# Altium integrated library TI Power Management LDO Controller.IntLib: 89 symbols (part 1 of 3)
Pins are listed as number, name and electrical type; pins without a type are passive.

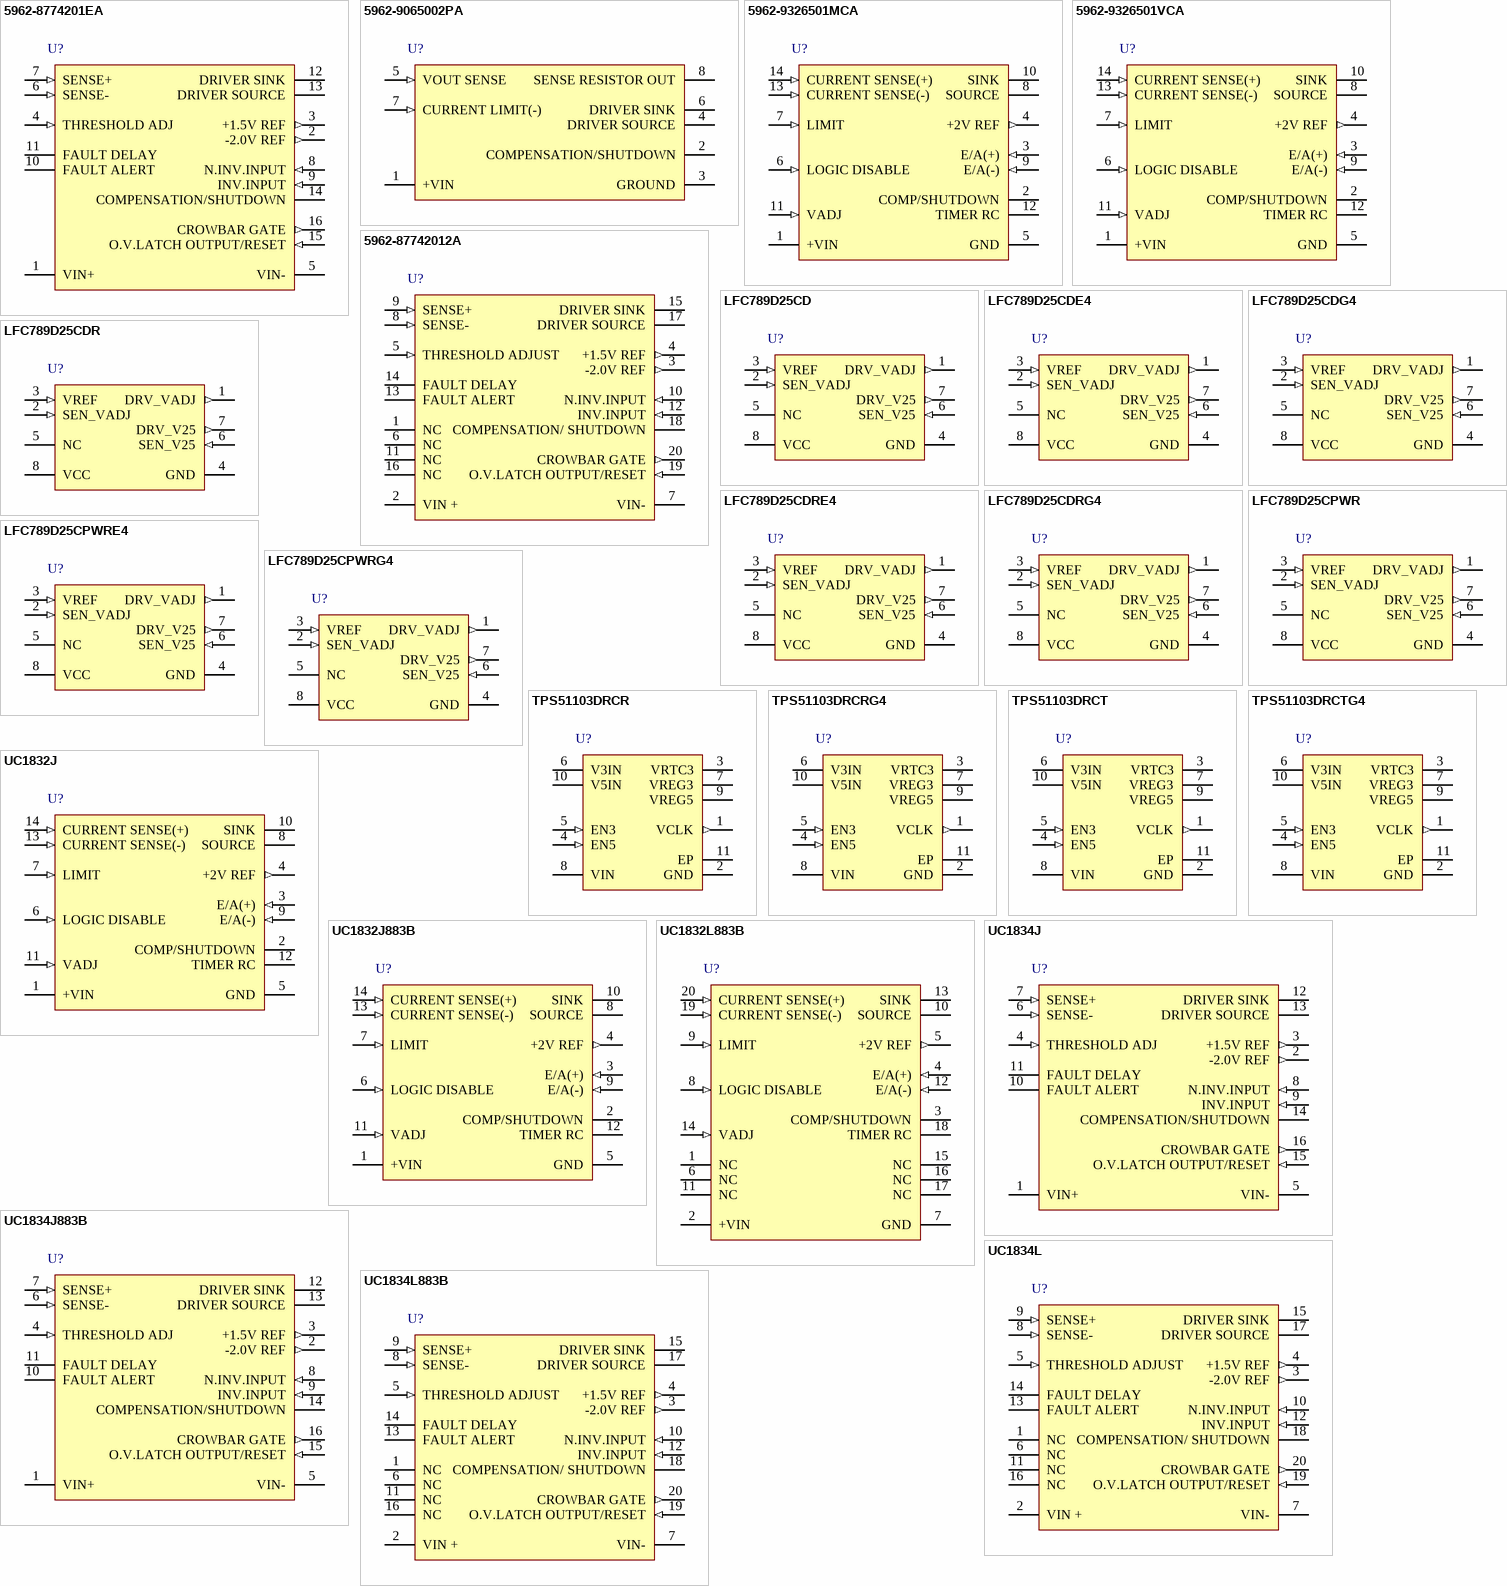
[diagram p0: symbols 5962-8774201EA to UC1834L883B]

## 5962-8774201EA
designator U?
High Efficiency Linear Regulator, 4 % Tolerance, 5 to 35 V, -55 to 125 degC, 16-pin CDIP (J); PartNumber: 5962-8774201EA; Manufacturer: Texas Instruments; Fixed Output Options(V): 1.5; Iq(Typ)(mA): 5.5; SubFamily: LDO Controller; Tolerance(%): 4; Vin(Max)(V): 35; Vin(Min)(V): 5; DatasheetVersion: SLUS363; PackageVersion: revF, Mar-2003; PackageReference: J16; PackageDescription: 16-Pin, Ceramic Dual In-Line Package, Row Spacing 7.62 mm, Pitch 2.54 mm; Mounting Technology: Through Hole; ComponentLink1Description: Datasheet; ComponentLink1URL: http://www.ti.com/general/docs/lit/getliterature.tsp?genericPartNumber=UC1834&fileType=pdf
footprint J16 (DIP, 16-Leads, Row Spacing 7.62mm, Pitch 2.54mm, Body 21.3x6.9mm)
pins: 1 VIN+ (power), 2 -2.0V REF (out), 3 +1.5V REF (out), 4 THRESHOLD ADJ (in), 5 VIN- (power), 6 SENSE- (in), 7 SENSE+ (in), 8 N.INV.INPUT (in), 9 INV.INPUT (in), 10 FAULT ALERT (oc), 11 FAULT DELAY, 12 DRIVER SINK, 13 DRIVER SOURCE, 14 COMPENSATION/SHUTDOWN, 15 O.V.LATCH OUTPUT/RESET (in), 16 CROWBAR GATE (out)

## 5962-9065002PA
designator U?
High Efficiency Regulator Controller, 2 % Tolerance, 6 to 40 V, -55 to +125 degC, 8-pin CDIP (JG); PartNumber: 5962-9065002PA; Manufacturer: Texas Instruments; Iq(Typ)(mA): 3.7; SubFamily: LDO Controller; Tolerance(%): 2; Vin(Max)(V): 40; Vin(Min)(V): 6; Vout Adj(Max)(V): 5; Vout Adj(Min)(V): 2.5; DatasheetVersion: SLUS383; PackageVersion: revC, Aug-1996; PackageReference: JG8; PackageDescription: 8-Pin Ceramic Dual-In-Line Package, Row Spacing 7.62 mm, Pitch 2.54 mm; Mounting Technology: Through Hole; ComponentLink1Description: Datasheet; ComponentLink1URL: http://www.ti.com/general/docs/lit/getliterature.tsp?genericPartNumber=UC1836&fileType=pdf
footprint JG8 (DIP, 8-Leads, Row Spacing 7.62mm, Pitch 2.54mm, Body 9.6x6.7mm)
pins: 1 +VIN (power), 2 COMPENSATION/SHUTDOWN, 3 GROUND (power), 4 DRIVER SOURCE, 5 VOUT SENSE (in), 6 DRIVER SINK, 7 CURRENT LIMIT(-) (in), 8 SENSE RESISTOR OUT

## 5962-9326501MCA
designator U?
Precision Low Dropout Linear Controller, 2 % Tolerance, 4.5 to 40 V, -55 to 125 degC, 14-pin CDIP (J); PartNumber: 5962-9326501MCA; Manufacturer: Texas Instruments; Fixed Output Options(V): 2; Iq(Typ)(mA): 3.3; SubFamily: LDO Controller; Vin(Max)(V): 40; Vin(Min)(V): 4.5; DatasheetVersion: SLUS387A; PackageVersion: revF, Mar-2003; PackageReference: J14; PackageDescription: 14-Pin Ceramic Dual-In-Line Package, Row Spacing 7.62 mm, Pitch 2.54 mm; Tolerance(%): 2; Mounting Technology: Through Hole; ComponentLink1Description: Datasheet; ComponentLink1URL: http://www.ti.com/general/docs/lit/getliterature.tsp?genericPartNumber=UC1832&fileType=pdf
footprint J14 (DIP, 14-Leads, Row Spacing 7.62mm, Pitch 2.54mm, Body 19.9x6.9mm)
pins: 1 +VIN (power), 2 COMP/SHUTDOWN, 3 E/A(+) (in), 4 +2V REF (out), 5 GND (power), 6 LOGIC DISABLE (in), 7 LIMIT (in), 8 SOURCE, 9 E/A(-) (in), 10 SINK, 11 VADJ (in), 12 TIMER RC, 13 CURRENT SENSE(-) (in), 14 CURRENT SENSE(+) (in)

## 5962-9326501VCA
designator U?
Precision Low Dropout Linear Controller, 2 % Tolerance, 4.5 to 40 V, 14-pin CDIP (J); PartNumber: 5962-9326501VCA; Manufacturer: Texas Instruments; Fixed Output Options(V): 2; Iq(Typ)(mA): 3.3; SubFamily: LDO Controller; Vin(Max)(V): 40; Vin(Min)(V): 4.5; DatasheetVersion: SLUS387A; PackageVersion: revF, Mar-2003; PackageReference: J14; PackageDescription: 14-Pin Ceramic Dual-In-Line Package, Row Spacing 7.62 mm, Pitch 2.54 mm; Tolerance(%): 2; Mounting Technology: Through Hole; ComponentLink1Description: Datasheet; ComponentLink1URL: http://www.ti.com/general/docs/lit/getliterature.tsp?genericPartNumber=UC1832-SP&fileType=pdf
footprint J14 (DIP, 14-Leads, Row Spacing 7.62mm, Pitch 2.54mm, Body 19.9x6.9mm)
pins: 1 +VIN (power), 2 COMP/SHUTDOWN, 3 E/A(+) (in), 4 +2V REF (out), 5 GND (power), 6 LOGIC DISABLE (in), 7 LIMIT (in), 8 SOURCE, 9 E/A(-) (in), 10 SINK, 11 VADJ (in), 12 TIMER RC, 13 CURRENT SENSE(-) (in), 14 CURRENT SENSE(+) (in)

## 5962-87742012A
designator U?
High Efficiency Linear Regulator, 4 % Tolerance, 5 to 35 V, -55 to 125 degC, 20-pin LCCC (FK); PartNumber: 5962-87742012A; Manufacturer: Texas Instruments; Fixed Output Options(V): 1.5; Iq(Typ)(mA): 5.5; SubFamily: LDO Controller; Tolerance(%): 4; Vin(Max)(V): 35; Vin(Min)(V): 5; DatasheetVersion: SLUS363; PackageVersion: revD, Jan-2011; PackageReference: FK20; PackageDescription: 20-Pin Leadless Ceramic Chip Carrier, 1.27 mm Pitch; Mounting Technology: Surface Mount; Code_JEDEC: MS-004; ComponentLink1Description: Datasheet; ComponentLink1URL: http://www.ti.com/general/docs/lit/getliterature.tsp?genericPartNumber=UC1834&fileType=pdf
footprint FK20_N (Leadless Chip Carrier, 20-Leads, Body 8.9x8.9mm, Pitch 1.27mm, IPC Medium Density)
footprint FK20_L (Leadless Chip Carrier, 20-Leads, Body 8.9x8.9mm, Pitch 1.27mm, IPC High Density)
footprint FK20_M (Leadless Chip Carrier, 20-Leads, Body 8.9x8.9mm, Pitch 1.27mm, IPC Low Density)
pins: 1 NC, 2 VIN + (power), 3 -2.0V REF (out), 4 +1.5V REF (out), 5 THRESHOLD ADJUST (in), 6 NC, 7 VIN- (power), 8 SENSE- (in), 9 SENSE+ (in), 10 N.INV.INPUT (in), 11 NC, 12 INV.INPUT (in), 13 FAULT ALERT (oc), 14 FAULT DELAY, 15 DRIVER SINK, 16 NC, 17 DRIVER SOURCE, 18 COMPENSATION/ SHUTDOWN, 19 O.V.LATCH OUTPUT/RESET (in), 20 CROWBAR GATE (out)

## LFC789D25CD
designator U?
Dual Linear FET Controller, 2 % Tolerance, 9 to 16 V, 0 to 70 degC, 8-pin SOIC (D), Green (RoHS & no Sb/Br); PartNumber: LFC789D25CD; Manufacturer: Texas Instruments; Fixed Output Options(V): 2.5; Iq(Typ)(mA): 2; SubFamily: LDO Controller; Vin(Max)(V): 16; Vin(Min)(V): 9; DatasheetVersion: SLLS565B; PackageVersion: revM, Jun-2011; PackageReference: D8; PackageDescription: 8-Pin Plastic Small Outline Integrated Circuit, 4.9 x 3.9 mm, Pitch 1.27 mm Pitch; Supplier 1: Digi-Key; Supplier Part Number 1: LFC789D25CD-ND; Supplier 2: Newark; Supplier Part Number 2: 21J8791; Supplier 3: Mouser; Supplier Part Number 3: 595-LFC789D25CD; Tolerance(%): 2; Mounting Technology: Surface Mount; Code_JEDEC: MS-012AA; ComponentLink1Description: Datasheet; ComponentLink1URL: http://www.ti.com/general/docs/lit/getliterature.tsp?genericPartNumber=LFC789D25&fileType=pdf
footprint D8_N (SOIC, 8-Leads, Body 4.9x3.9mm, Pitch 1.27mm, IPC Medium Density)
footprint D8_L (SOIC, 8-Leads, Body 4.9x3.9mm, Pitch 1.27mm, IPC High Density)
footprint D8_M (SOIC, 8-Leads, Body 4.9x3.9mm, Pitch 1.27mm, IPC Low Density)
pins: 1 DRV_VADJ (out) "Output of adjustable controller. Drives gate(s) of FET(s) to output user-programmable voltage (VADJ).", 2 SEN_VADJ (in) "Sense input of adjustable controller. Senses changes in VADJ.", 3 VREF (in) "Input pin used to program VADJ, allowing VADJ to track changes in VREF", 4 GND (power) "Ground", 5 NC "No connection", 6 SEN_V25 (in) "Sense Input of 2.5-V controller. Senses changes in 2.5-V supply.", 7 DRV_V25 (out) "Output of 2.5-V controller. Drives gate(s) of FET(s) to output fixed 2.5 V.", 8 VCC (power) "Power supply for device"

## LFC789D25CDE4
designator U?
Dual Linear FET Controller, 2 % Tolerance, 9 to 16 V, 0 to 70 degC, 8-pin SOIC (D), Green (RoHS & no Sb/Br); PartNumber: LFC789D25CDE4; Manufacturer: Texas Instruments; Fixed Output Options(V): 2.5; Iq(Typ)(mA): 2; SubFamily: LDO Controller; Vin(Max)(V): 16; Vin(Min)(V): 9; DatasheetVersion: SLLS565B; PackageVersion: revM, Jun-2011; PackageReference: D8; PackageDescription: 8-Pin Plastic Small Outline Integrated Circuit, 4.9 x 3.9 mm, Pitch 1.27 mm Pitch; Supplier 1: Digi-Key; Supplier Part Number 1: LFC789D25CDE4-ND; Supplier 2: Newark; Supplier Part Number 2: 37K0157; Supplier 3: Mouser; Supplier Part Number 3: 595-LFC789D25CDE4; Tolerance(%): 2; Mounting Technology: Surface Mount; Code_JEDEC: MS-012AA; ComponentLink1Description: Datasheet; ComponentLink1URL: http://www.ti.com/general/docs/lit/getliterature.tsp?genericPartNumber=LFC789D25&fileType=pdf
footprint D8_N (SOIC, 8-Leads, Body 4.9x3.9mm, Pitch 1.27mm, IPC Medium Density)
footprint D8_L (SOIC, 8-Leads, Body 4.9x3.9mm, Pitch 1.27mm, IPC High Density)
footprint D8_M (SOIC, 8-Leads, Body 4.9x3.9mm, Pitch 1.27mm, IPC Low Density)
pins: 1 DRV_VADJ (out) "Output of adjustable controller. Drives gate(s) of FET(s) to output user-programmable voltage (VADJ).", 2 SEN_VADJ (in) "Sense input of adjustable controller. Senses changes in VADJ.", 3 VREF (in) "Input pin used to program VADJ, allowing VADJ to track changes in VREF", 4 GND (power) "Ground", 5 NC "No connection", 6 SEN_V25 (in) "Sense Input of 2.5-V controller. Senses changes in 2.5-V supply.", 7 DRV_V25 (out) "Output of 2.5-V controller. Drives gate(s) of FET(s) to output fixed 2.5 V.", 8 VCC (power) "Power supply for device"

## LFC789D25CDG4
designator U?
Dual Linear FET Controller, 2 % Tolerance, 9 to 16 V, 0 to 70 degC, 8-pin SOIC (D), Green (RoHS & no Sb/Br); PartNumber: LFC789D25CDG4; Manufacturer: Texas Instruments; Fixed Output Options(V): 2.5; Iq(Typ)(mA): 2; SubFamily: LDO Controller; Vin(Max)(V): 16; Vin(Min)(V): 9; DatasheetVersion: SLLS565B; PackageVersion: revM, Jun-2011; PackageReference: D8; PackageDescription: 8-Pin Plastic Small Outline Integrated Circuit, 4.9 x 3.9 mm, Pitch 1.27 mm Pitch; Supplier 1: Digi-Key; Supplier Part Number 1: LFC789D25CDG4-ND; Supplier 2: Newark; Supplier Part Number 2: 41M3337; Supplier 3: Mouser; Supplier Part Number 3: 595-LFC789D25CDG4; Tolerance(%): 2; Mounting Technology: Surface Mount; Code_JEDEC: MS-012AA; ComponentLink1Description: Datasheet; ComponentLink1URL: http://www.ti.com/general/docs/lit/getliterature.tsp?genericPartNumber=LFC789D25&fileType=pdf
footprint D8_N (SOIC, 8-Leads, Body 4.9x3.9mm, Pitch 1.27mm, IPC Medium Density)
footprint D8_L (SOIC, 8-Leads, Body 4.9x3.9mm, Pitch 1.27mm, IPC High Density)
footprint D8_M (SOIC, 8-Leads, Body 4.9x3.9mm, Pitch 1.27mm, IPC Low Density)
pins: 1 DRV_VADJ (out) "Output of adjustable controller. Drives gate(s) of FET(s) to output user-programmable voltage (VADJ).", 2 SEN_VADJ (in) "Sense input of adjustable controller. Senses changes in VADJ.", 3 VREF (in) "Input pin used to program VADJ, allowing VADJ to track changes in VREF", 4 GND (power) "Ground", 5 NC "No connection", 6 SEN_V25 (in) "Sense Input of 2.5-V controller. Senses changes in 2.5-V supply.", 7 DRV_V25 (out) "Output of 2.5-V controller. Drives gate(s) of FET(s) to output fixed 2.5 V.", 8 VCC (power) "Power supply for device"

## LFC789D25CDR
designator U?
Dual Linear FET Controller, 2 % Tolerance, 9 to 16 V, 0 to 70 degC, 8-pin SOIC (D), Green (RoHS & no Sb/Br); PartNumber: LFC789D25CDR; Manufacturer: Texas Instruments; Fixed Output Options(V): 2.5; Iq(Typ)(mA): 2; SubFamily: LDO Controller; Vin(Max)(V): 16; Vin(Min)(V): 9; DatasheetVersion: SLLS565B; PackageVersion: revM, Jun-2011; PackageReference: D8; PackageDescription: 8-Pin Plastic Small Outline Integrated Circuit, 4.9 x 3.9 mm, Pitch 1.27 mm Pitch; Supplier 1: Digi-Key; Supplier Part Number 1: 296-17214-2-ND; Supplier 2: Digi-Key; Supplier Part Number 2: 296-17214-1-ND; Supplier 3: Digi-Key; Supplier Part Number 3: 296-17214-6-ND; Supplier 4: Newark; Supplier Part Number 4: 21J8792; Supplier 5: Mouser; Supplier Part Number 5: 595-LFC789D25CDR; Tolerance(%): 2; Mounting Technology: Surface Mount; Code_JEDEC: MS-012AA; ComponentLink1Description: Datasheet; ComponentLink1URL: http://www.ti.com/general/docs/lit/getliterature.tsp?genericPartNumber=LFC789D25&fileType=pdf
footprint D8_N (SOIC, 8-Leads, Body 4.9x3.9mm, Pitch 1.27mm, IPC Medium Density)
footprint D8_L (SOIC, 8-Leads, Body 4.9x3.9mm, Pitch 1.27mm, IPC High Density)
footprint D8_M (SOIC, 8-Leads, Body 4.9x3.9mm, Pitch 1.27mm, IPC Low Density)
pins: 1 DRV_VADJ (out) "Output of adjustable controller. Drives gate(s) of FET(s) to output user-programmable voltage (VADJ).", 2 SEN_VADJ (in) "Sense input of adjustable controller. Senses changes in VADJ.", 3 VREF (in) "Input pin used to program VADJ, allowing VADJ to track changes in VREF", 4 GND (power) "Ground", 5 NC "No connection", 6 SEN_V25 (in) "Sense Input of 2.5-V controller. Senses changes in 2.5-V supply.", 7 DRV_V25 (out) "Output of 2.5-V controller. Drives gate(s) of FET(s) to output fixed 2.5 V.", 8 VCC (power) "Power supply for device"

## LFC789D25CDRE4
designator U?
Dual Linear FET Controller, 2 % Tolerance, 9 to 16 V, 0 to 70 degC, 8-pin SOIC (D), Green (RoHS & no Sb/Br); PartNumber: LFC789D25CDRE4; Manufacturer: Texas Instruments; Fixed Output Options(V): 2.5; Iq(Typ)(mA): 2; SubFamily: LDO Controller; Vin(Max)(V): 16; Vin(Min)(V): 9; DatasheetVersion: SLLS565B; PackageVersion: revM, Jun-2011; PackageReference: D8; PackageDescription: 8-Pin Plastic Small Outline Integrated Circuit, 4.9 x 3.9 mm, Pitch 1.27 mm Pitch; Supplier 1: Digi-Key; Supplier Part Number 1: LFC789D25CDRE4-ND; Supplier 2: Newark; Supplier Part Number 2: 37K0158; Supplier 3: Mouser; Supplier Part Number 3: 595-LFC789D25CDRE4; Tolerance(%): 2; Mounting Technology: Surface Mount; Code_JEDEC: MS-012AA; ComponentLink1Description: Datasheet; ComponentLink1URL: http://www.ti.com/general/docs/lit/getliterature.tsp?genericPartNumber=LFC789D25&fileType=pdf
footprint D8_N (SOIC, 8-Leads, Body 4.9x3.9mm, Pitch 1.27mm, IPC Medium Density)
footprint D8_L (SOIC, 8-Leads, Body 4.9x3.9mm, Pitch 1.27mm, IPC High Density)
footprint D8_M (SOIC, 8-Leads, Body 4.9x3.9mm, Pitch 1.27mm, IPC Low Density)
pins: 1 DRV_VADJ (out) "Output of adjustable controller. Drives gate(s) of FET(s) to output user-programmable voltage (VADJ).", 2 SEN_VADJ (in) "Sense input of adjustable controller. Senses changes in VADJ.", 3 VREF (in) "Input pin used to program VADJ, allowing VADJ to track changes in VREF", 4 GND (power) "Ground", 5 NC "No connection", 6 SEN_V25 (in) "Sense Input of 2.5-V controller. Senses changes in 2.5-V supply.", 7 DRV_V25 (out) "Output of 2.5-V controller. Drives gate(s) of FET(s) to output fixed 2.5 V.", 8 VCC (power) "Power supply for device"

## LFC789D25CDRG4
designator U?
Dual Linear FET Controller, 2 % Tolerance, 9 to 16 V, 0 to 70 degC, 8-pin SOIC (D), Green (RoHS & no Sb/Br); PartNumber: LFC789D25CDRG4; Manufacturer: Texas Instruments; Fixed Output Options(V): 2.5; Iq(Typ)(mA): 2; SubFamily: LDO Controller; Vin(Max)(V): 16; Vin(Min)(V): 9; DatasheetVersion: SLLS565B; PackageVersion: revM, Jun-2011; PackageReference: D8; PackageDescription: 8-Pin Plastic Small Outline Integrated Circuit, 4.9 x 3.9 mm, Pitch 1.27 mm Pitch; Supplier 1: Digi-Key; Supplier Part Number 1: LFC789D25CDRG4-ND; Supplier 2: Newark; Supplier Part Number 2: 41M3338; Supplier 3: Mouser; Supplier Part Number 3: 595-LFC789D25CDRG4; Tolerance(%): 2; Mounting Technology: Surface Mount; Code_JEDEC: MS-012AA; ComponentLink1Description: Datasheet; ComponentLink1URL: http://www.ti.com/general/docs/lit/getliterature.tsp?genericPartNumber=LFC789D25&fileType=pdf
footprint D8_N (SOIC, 8-Leads, Body 4.9x3.9mm, Pitch 1.27mm, IPC Medium Density)
footprint D8_L (SOIC, 8-Leads, Body 4.9x3.9mm, Pitch 1.27mm, IPC High Density)
footprint D8_M (SOIC, 8-Leads, Body 4.9x3.9mm, Pitch 1.27mm, IPC Low Density)
pins: 1 DRV_VADJ (out) "Output of adjustable controller. Drives gate(s) of FET(s) to output user-programmable voltage (VADJ).", 2 SEN_VADJ (in) "Sense input of adjustable controller. Senses changes in VADJ.", 3 VREF (in) "Input pin used to program VADJ, allowing VADJ to track changes in VREF", 4 GND (power) "Ground", 5 NC "No connection", 6 SEN_V25 (in) "Sense Input of 2.5-V controller. Senses changes in 2.5-V supply.", 7 DRV_V25 (out) "Output of 2.5-V controller. Drives gate(s) of FET(s) to output fixed 2.5 V.", 8 VCC (power) "Power supply for device"

## LFC789D25CPWR
designator U?
Dual Linear FET Controller, 2 % Tolerance, 9 to 16 V, 0 to 70 degC, 8-pin TSSOP (PW), Green (RoHS & no Sb/Br); PartNumber: LFC789D25CPWR; Manufacturer: Texas Instruments; Fixed Output Options(V): 2.5; Iq(Typ)(mA): 2; SubFamily: LDO Controller; Vin(Max)(V): 16; Vin(Min)(V): 9; DatasheetVersion: SLLS565B; PackageVersion: revG, Feb-2011; PackageReference: PW8; PackageDescription: 8-Pin Plastic Thin Small Outline Package 3 x 4.4 mm Body ,0.65 mm Pitch; Supplier 1: Digi-Key; Supplier Part Number 1: 296-17215-2-ND; Supplier 2: Digi-Key; Supplier Part Number 2: 296-17215-1-ND; Supplier 3: Digi-Key; Supplier Part Number 3: 296-17215-6-ND; Supplier 4: Newark; Supplier Part Number 4: 21J8794; Supplier 5: Mouser; Supplier Part Number 5: 595-LFC789D25CPWR; Tolerance(%): 2; Mounting Technology: Surface Mount; Code_JEDEC: MO-153; ComponentLink1Description: Datasheet; ComponentLink1URL: http://www.ti.com/general/docs/lit/getliterature.tsp?genericPartNumber=LFC789D25&fileType=pdf
footprint PW8_N (TSOP, 8-Leads, Body 3x4.4mm, Pitch 0.65mm, IPC Medium Density)
footprint PW8_L (TSOP, 8-Leads, Body 3x4.4mm, Pitch 0.65mm, IPC High Density)
footprint PW8_M (TSOP, 8-Leads, Body 3x4.4mm, Pitch 0.65mm, IPC Low Density)
pins: 1 DRV_VADJ (out) "Output of adjustable controller. Drives gate(s) of FET(s) to output user-programmable voltage (VADJ).", 2 SEN_VADJ (in) "Sense input of adjustable controller. Senses changes in VADJ.", 3 VREF (in) "Input pin used to program VADJ, allowing VADJ to track changes in VREF.", 4 GND (power) "Ground.", 5 NC "No connection.", 6 SEN_V25 (in) "Sense Input of 2.5-V controller. Senses changes in 2.5-V supply.", 7 DRV_V25 (out) "Output of 2.5-V controller. Drives gate(s) of FET(s) to output fixed 2.5 V.", 8 VCC (power) "Power supply for device."

## LFC789D25CPWRE4
designator U?
Dual Linear FET Controller, 2 % Tolerance, 9 to 16 V, 0 to 70 degC, 8-pin TSSOP (PW), Green (RoHS & no Sb/Br); PartNumber: LFC789D25CPWRE4; Manufacturer: Texas Instruments; Fixed Output Options(V): 2.5; Iq(Typ)(mA): 2; SubFamily: LDO Controller; Vin(Max)(V): 16; Vin(Min)(V): 9; DatasheetVersion: SLLS565B; PackageVersion: revG, Feb-2011; PackageReference: PW8; PackageDescription: 8-Pin Plastic Thin Small Outline Package 3 x 4.4 mm Body ,0.65 mm Pitch; Supplier 1: Digi-Key; Supplier Part Number 1: LFC789D25CPWRE4-ND; Supplier 2: Newark; Supplier Part Number 2: 33K5218; Supplier 3: Mouser; Supplier Part Number 3: 595-LFC789D25CPWRE4; Tolerance(%): 2; Mounting Technology: Surface Mount; Code_JEDEC: MO-153; ComponentLink1Description: Datasheet; ComponentLink1URL: http://www.ti.com/general/docs/lit/getliterature.tsp?genericPartNumber=LFC789D25&fileType=pdf
footprint PW8_N (TSOP, 8-Leads, Body 3x4.4mm, Pitch 0.65mm, IPC Medium Density)
footprint PW8_L (TSOP, 8-Leads, Body 3x4.4mm, Pitch 0.65mm, IPC High Density)
footprint PW8_M (TSOP, 8-Leads, Body 3x4.4mm, Pitch 0.65mm, IPC Low Density)
pins: 1 DRV_VADJ (out) "Output of adjustable controller. Drives gate(s) of FET(s) to output user-programmable voltage (VADJ).", 2 SEN_VADJ (in) "Sense input of adjustable controller. Senses changes in VADJ.", 3 VREF (in) "Input pin used to program VADJ, allowing VADJ to track changes in VREF.", 4 GND (power) "Ground.", 5 NC "No connection.", 6 SEN_V25 (in) "Sense Input of 2.5-V controller. Senses changes in 2.5-V supply.", 7 DRV_V25 (out) "Output of 2.5-V controller. Drives gate(s) of FET(s) to output fixed 2.5 V.", 8 VCC (power) "Power supply for device."

## LFC789D25CPWRG4
designator U?
Dual Linear FET Controller, 2 % Tolerance, 9 to 16 V, 0 to 70 degC, 8-pin TSSOP (PW), Green (RoHS & no Sb/Br); PartNumber: LFC789D25CPWRG4; Manufacturer: Texas Instruments; Fixed Output Options(V): 2.5; Iq(Typ)(mA): 2; SubFamily: LDO Controller; Vin(Max)(V): 16; Vin(Min)(V): 9; DatasheetVersion: SLLS565B; PackageVersion: revG, Feb-2011; PackageReference: PW8; PackageDescription: 8-Pin Plastic Thin Small Outline Package 3 x 4.4 mm Body ,0.65 mm Pitch; Supplier 1: Digi-Key; Supplier Part Number 1: LFC789D25CPWRG4-ND; Supplier 2: Newark; Supplier Part Number 2: 46M6526; Supplier 3: Mouser; Supplier Part Number 3: 595-LFC789D25CPWRG4; Tolerance(%): 2; Mounting Technology: Surface Mount; Code_JEDEC: MO-153; ComponentLink1Description: Datasheet; ComponentLink1URL: http://www.ti.com/general/docs/lit/getliterature.tsp?genericPartNumber=LFC789D25&fileType=pdf
footprint PW8_N (TSOP, 8-Leads, Body 3x4.4mm, Pitch 0.65mm, IPC Medium Density)
footprint PW8_L (TSOP, 8-Leads, Body 3x4.4mm, Pitch 0.65mm, IPC High Density)
footprint PW8_M (TSOP, 8-Leads, Body 3x4.4mm, Pitch 0.65mm, IPC Low Density)
pins: 1 DRV_VADJ (out) "Output of adjustable controller. Drives gate(s) of FET(s) to output user-programmable voltage (VADJ).", 2 SEN_VADJ (in) "Sense input of adjustable controller. Senses changes in VADJ.", 3 VREF (in) "Input pin used to program VADJ, allowing VADJ to track changes in VREF.", 4 GND (power) "Ground.", 5 NC "No connection.", 6 SEN_V25 (in) "Sense Input of 2.5-V controller. Senses changes in 2.5-V supply.", 7 DRV_V25 (out) "Output of 2.5-V controller. Drives gate(s) of FET(s) to output fixed 2.5 V.", 8 VCC (power) "Power supply for device."

## TPS51103DRCR
designator U?
Integrated LDO with Switchover Circuit for Notebook Computers, 4.5 to 28 V, -40 to 85 degC, 10-pin SON (DRC), Green (RoHS & no Sb/Br); PartNumber: TPS51103DRCR; Manufacturer: Texas Instruments; SubFamily: LDO Controller; Vin(Max)(V): 28; Vin(Min)(V): 4.5; Vout Adj(Max)(V): 5.5; Vout Adj(Min)(V): -0.1; DatasheetVersion: SLUS808; PackageVersion: revL, Sep-2011; PackageReference: DRC10-2400X1650TP; PackageDescription: 10-Pin Plastic Small Outline No-Lead, 3 x 3 x 1 mm Body, 0.5 mm Pitch, Exposed Pad; Supplier 1: Digi-Key; Supplier Part Number 1: 296-23707-2-ND; Supplier 2: Digi-Key; Supplier Part Number 2: 296-23707-1-ND; Supplier 3: Digi-Key; Supplier Part Number 3: 296-23707-6-ND; Supplier 4: Newark; Supplier Part Number 4: 12P8032; Supplier 5: Mouser; Supplier Part Number 5: 595-TPS51103DRCR; Mounting Technology: Surface Mount; ComponentLink1Description: Datasheet; ComponentLink1URL: http://www.ti.com/general/docs/lit/getliterature.tsp?genericPartNumber=TPS51103&fileType=pdf
footprint DRC10-2400X1650TP (SON, 10-Leads, Body 3x3mm, Pitch 0.5mm, Thermal Pad 2.4x1.65mm, TI Recommended)
pins: 1 VCLK (out) "50% duty 250-kHz clock output for charge pump power supply.", 2 GND (power) "Ground.", 3 VRTC3 (power) "3.3-V 5 mA always on LDO output for RTC.", 4 EN5 (in) "5-V LDO enable input.", 5 EN3 (in) "3.3-V LDO enable input.", 6 V3IN (power) "3.3-V switchover power supply input. Switchover occurs 1 ms after this input voltage reaches the threshold voltage.", 7 VREG3 (power) "3.3-V 100 mA LDO output.", 8 VIN (power) "Power supply input for LDOs.", 9 VREG5 (power) "5-V 100 mA LDO output.", 10 V5IN (power) "5-V switchover power supply input. Switchover occurs 1 ms after this input voltage reaches to threshold voltage.", 11 EP "Exposed pad"

## TPS51103DRCRG4
designator U?
Integrated LDO with Switchover Circuit for Notebook Computers, 4.5 to 28 V, -40 to 85 degC, 10-pin SON (DRC), Green (RoHS & no Sb/Br); PartNumber: TPS51103DRCRG4; Manufacturer: Texas Instruments; SubFamily: LDO Controller; Vin(Max)(V): 28; Vin(Min)(V): 4.5; Vout Adj(Max)(V): 5.5; Vout Adj(Min)(V): -0.1; DatasheetVersion: SLUS808; PackageVersion: revL, Sep-2011; PackageReference: DRC10-2400X1650TP; PackageDescription: 10-Pin Plastic Small Outline No-Lead, 3 x 3 x 1 mm Body, 0.5 mm Pitch, Exposed Pad; Supplier 1: Digi-Key; Supplier Part Number 1: TPS51103DRCRG4-ND; Supplier 2: Mouser; Supplier Part Number 2: 595-TPS51103DRCRG4; Mounting Technology: Surface Mount; ComponentLink1Description: Datasheet; ComponentLink1URL: http://www.ti.com/general/docs/lit/getliterature.tsp?genericPartNumber=TPS51103&fileType=pdf
footprint DRC10-2400X1650TP (SON, 10-Leads, Body 3x3mm, Pitch 0.5mm, Thermal Pad 2.4x1.65mm, TI Recommended)
pins: 1 VCLK (out) "50% duty 250-kHz clock output for charge pump power supply.", 2 GND (power) "Ground.", 3 VRTC3 (power) "3.3-V 5 mA always on LDO output for RTC.", 4 EN5 (in) "5-V LDO enable input.", 5 EN3 (in) "3.3-V LDO enable input.", 6 V3IN (power) "3.3-V switchover power supply input. Switchover occurs 1 ms after this input voltage reaches the threshold voltage.", 7 VREG3 (power) "3.3-V 100 mA LDO output.", 8 VIN (power) "Power supply input for LDOs.", 9 VREG5 (power) "5-V 100 mA LDO output.", 10 V5IN (power) "5-V switchover power supply input. Switchover occurs 1 ms after this input voltage reaches to threshold voltage.", 11 EP "Exposed pad"

## TPS51103DRCT
designator U?
Integrated LDO with Switchover Circuit for Notebook Computers, 4.5 to 28 V, -40 to 85 degC, 10-pin SON (DRC), Green (RoHS & no Sb/Br); PartNumber: TPS51103DRCT; Manufacturer: Texas Instruments; SubFamily: LDO Controller; Vin(Max)(V): 28; Vin(Min)(V): 4.5; Vout Adj(Max)(V): 5.5; Vout Adj(Min)(V): -0.1; DatasheetVersion: SLUS808; PackageVersion: revL, Sep-2011; PackageReference: DRC10-2400X1650TP; PackageDescription: 10-Pin Plastic Small Outline No-Lead, 3 x 3 x 1 mm Body, 0.5 mm Pitch, Exposed Pad; Supplier 1: Digi-Key; Supplier Part Number 1: TPS51103DRCT-ND; Supplier 2: Mouser; Supplier Part Number 2: 595-TPS51103DRCT; Mounting Technology: Surface Mount; ComponentLink1Description: Datasheet; ComponentLink1URL: http://www.ti.com/general/docs/lit/getliterature.tsp?genericPartNumber=TPS51103&fileType=pdf
footprint DRC10-2400X1650TP (SON, 10-Leads, Body 3x3mm, Pitch 0.5mm, Thermal Pad 2.4x1.65mm, TI Recommended)
pins: 1 VCLK (out) "50% duty 250-kHz clock output for charge pump power supply.", 2 GND (power) "Ground.", 3 VRTC3 (power) "3.3-V 5 mA always on LDO output for RTC.", 4 EN5 (in) "5-V LDO enable input.", 5 EN3 (in) "3.3-V LDO enable input.", 6 V3IN (power) "3.3-V switchover power supply input. Switchover occurs 1 ms after this input voltage reaches the threshold voltage.", 7 VREG3 (power) "3.3-V 100 mA LDO output.", 8 VIN (power) "Power supply input for LDOs.", 9 VREG5 (power) "5-V 100 mA LDO output.", 10 V5IN (power) "5-V switchover power supply input. Switchover occurs 1 ms after this input voltage reaches to threshold voltage.", 11 EP "Exposed pad"

## TPS51103DRCTG4
designator U?
Integrated LDO with Switchover Circuit for Notebook Computers, 4.5 to 28 V, -40 to 85 degC, 10-pin SON (DRC), Green (RoHS & no Sb/Br); PartNumber: TPS51103DRCTG4; Manufacturer: Texas Instruments; SubFamily: LDO Controller; Vin(Max)(V): 28; Vin(Min)(V): 4.5; Vout Adj(Max)(V): 5.5; Vout Adj(Min)(V): -0.1; DatasheetVersion: SLUS808; PackageVersion: revL, Sep-2011; PackageReference: DRC10-2400X1650TP; PackageDescription: 10-Pin Plastic Small Outline No-Lead, 3 x 3 x 1 mm Body, 0.5 mm Pitch, Exposed Pad; Supplier 1: Digi-Key; Supplier Part Number 1: TPS51103DRCTG4-ND; Supplier 2: Mouser; Supplier Part Number 2: 595-TPS51103DRCTG4; Mounting Technology: Surface Mount; ComponentLink1Description: Datasheet; ComponentLink1URL: http://www.ti.com/general/docs/lit/getliterature.tsp?genericPartNumber=TPS51103&fileType=pdf
footprint DRC10-2400X1650TP (SON, 10-Leads, Body 3x3mm, Pitch 0.5mm, Thermal Pad 2.4x1.65mm, TI Recommended)
pins: 1 VCLK (out) "50% duty 250-kHz clock output for charge pump power supply.", 2 GND (power) "Ground.", 3 VRTC3 (power) "3.3-V 5 mA always on LDO output for RTC.", 4 EN5 (in) "5-V LDO enable input.", 5 EN3 (in) "3.3-V LDO enable input.", 6 V3IN (power) "3.3-V switchover power supply input. Switchover occurs 1 ms after this input voltage reaches the threshold voltage.", 7 VREG3 (power) "3.3-V 100 mA LDO output.", 8 VIN (power) "Power supply input for LDOs.", 9 VREG5 (power) "5-V 100 mA LDO output.", 10 V5IN (power) "5-V switchover power supply input. Switchover occurs 1 ms after this input voltage reaches to threshold voltage.", 11 EP "Exposed pad"

## UC1832J
designator U?
Precision Low Dropout Linear Controller, 2 % Tolerance, 4.5 to 40 V, -55 to 125 degC, 14-pin CDIP (J); PartNumber: UC1832J; Manufacturer: Texas Instruments; Fixed Output Options(V): 2; Iq(Typ)(mA): 3.3; SubFamily: LDO Controller; Vin(Max)(V): 40; Vin(Min)(V): 4.5; DatasheetVersion: SLUS387A; PackageVersion: revF, Mar-2003; PackageReference: J14; PackageDescription: 14-Pin Ceramic Dual-In-Line Package, Row Spacing 7.62 mm, Pitch 2.54 mm; Tolerance(%): 2; Mounting Technology: Through Hole; ComponentLink1Description: Datasheet; ComponentLink1URL: http://www.ti.com/general/docs/lit/getliterature.tsp?genericPartNumber=UC1832&fileType=pdf
footprint J14 (DIP, 14-Leads, Row Spacing 7.62mm, Pitch 2.54mm, Body 19.9x6.9mm)
pins: 1 +VIN (power), 2 COMP/SHUTDOWN, 3 E/A(+) (in), 4 +2V REF (out), 5 GND (power), 6 LOGIC DISABLE (in), 7 LIMIT (in), 8 SOURCE, 9 E/A(-) (in), 10 SINK, 11 VADJ (in), 12 TIMER RC, 13 CURRENT SENSE(-) (in), 14 CURRENT SENSE(+) (in)

## UC1832J883B
designator U?
Precision Low Dropout Linear Controller, 2 % Tolerance, 4.5 to 40 V, -55 to 125 degC, 14-pin CDIP (J); PartNumber: UC1832J883B; Manufacturer: Texas Instruments; Fixed Output Options(V): 2; Iq(Typ)(mA): 3.3; SubFamily: LDO Controller; Vin(Max)(V): 40; Vin(Min)(V): 4.5; DatasheetVersion: SLUS387A; PackageVersion: revF, Mar-2003; PackageReference: J14; PackageDescription: 14-Pin Ceramic Dual-In-Line Package, Row Spacing 7.62 mm, Pitch 2.54 mm; Tolerance(%): 2; Mounting Technology: Through Hole; ComponentLink1Description: Datasheet; ComponentLink1URL: http://www.ti.com/general/docs/lit/getliterature.tsp?genericPartNumber=UC1832&fileType=pdf
footprint J14 (DIP, 14-Leads, Row Spacing 7.62mm, Pitch 2.54mm, Body 19.9x6.9mm)
pins: 1 +VIN (power), 2 COMP/SHUTDOWN, 3 E/A(+) (in), 4 +2V REF (out), 5 GND (power), 6 LOGIC DISABLE (in), 7 LIMIT (in), 8 SOURCE, 9 E/A(-) (in), 10 SINK, 11 VADJ (in), 12 TIMER RC, 13 CURRENT SENSE(-) (in), 14 CURRENT SENSE(+) (in)

## UC1832L883B
designator U?
Precision Low Dropout Linear Controller, 2 % Tolerance, 4.5 to 40 V, -55 to 125 degC, 20-pin LCCC (FK); PartNumber: UC1832L883B; Manufacturer: Texas Instruments; Fixed Output Options(V): 2; Iq(Typ)(mA): 3.3; SubFamily: LDO Controller; Vin(Max)(V): 40; Vin(Min)(V): 4.5; DatasheetVersion: SLUS387A; PackageVersion: revD, Jan-2011; PackageReference: FK20; PackageDescription: 20-Pin Leadless Ceramic Chip Carrier, 1.27 mm Pitch; Tolerance(%): 2; Mounting Technology: Surface Mount; Code_JEDEC: MS-004; ComponentLink1Description: Datasheet; ComponentLink1URL: http://www.ti.com/general/docs/lit/getliterature.tsp?genericPartNumber=UC1832&fileType=pdf
footprint FK20_N (Leadless Chip Carrier, 20-Leads, Body 8.9x8.9mm, Pitch 1.27mm, IPC Medium Density)
footprint FK20_L (Leadless Chip Carrier, 20-Leads, Body 8.9x8.9mm, Pitch 1.27mm, IPC High Density)
footprint FK20_M (Leadless Chip Carrier, 20-Leads, Body 8.9x8.9mm, Pitch 1.27mm, IPC Low Density)
pins: 1 NC, 2 +VIN (power), 3 COMP/SHUTDOWN, 4 E/A(+) (in), 5 +2V REF (out), 6 NC, 7 GND (power), 8 LOGIC DISABLE (in), 9 LIMIT (in), 10 SOURCE, 11 NC, 12 E/A(-) (in), 13 SINK, 14 VADJ (in), 15 NC, 16 NC, 17 NC, 18 TIMER RC, 19 CURRENT SENSE(-) (in), 20 CURRENT SENSE(+) (in)

## UC1834J
designator U?
High Efficiency Linear Regulator, 4 % Tolerance, 5 to 35 V, -55 to 125 degC, 16-pin CDIP (J); PartNumber: UC1834J; Manufacturer: Texas Instruments; Fixed Output Options(V): 1.5; Iq(Typ)(mA): 5.5; SubFamily: LDO Controller; Tolerance(%): 4; Vin(Max)(V): 35; Vin(Min)(V): 5; DatasheetVersion: SLUS363; PackageVersion: revF, Mar-2003; PackageReference: J16; PackageDescription: 16-Pin, Ceramic Dual In-Line Package, Row Spacing 7.62 mm, Pitch 2.54 mm; Mounting Technology: Through Hole; ComponentLink1Description: Datasheet; ComponentLink1URL: http://www.ti.com/general/docs/lit/getliterature.tsp?genericPartNumber=UC1834&fileType=pdf
footprint J16 (DIP, 16-Leads, Row Spacing 7.62mm, Pitch 2.54mm, Body 21.3x6.9mm)
pins: 1 VIN+ (power), 2 -2.0V REF (out), 3 +1.5V REF (out), 4 THRESHOLD ADJ (in), 5 VIN- (power), 6 SENSE- (in), 7 SENSE+ (in), 8 N.INV.INPUT (in), 9 INV.INPUT (in), 10 FAULT ALERT (oc), 11 FAULT DELAY, 12 DRIVER SINK, 13 DRIVER SOURCE, 14 COMPENSATION/SHUTDOWN, 15 O.V.LATCH OUTPUT/RESET (in), 16 CROWBAR GATE (out)

## UC1834J883B
designator U?
High Efficiency Linear Regulator, 4 % Tolerance, 5 to 35 V, -55 to 125 degC, 16-pin CDIP (J); PartNumber: UC1834J883B; Manufacturer: Texas Instruments; Fixed Output Options(V): 1.5; Iq(Typ)(mA): 5.5; SubFamily: LDO Controller; Tolerance(%): 4; Vin(Max)(V): 35; Vin(Min)(V): 5; DatasheetVersion: SLUS363; PackageVersion: revF, Mar-2003; PackageReference: J16; PackageDescription: 16-Pin, Ceramic Dual In-Line Package, Row Spacing 7.62 mm, Pitch 2.54 mm; Mounting Technology: Through Hole; ComponentLink1Description: Datasheet; ComponentLink1URL: http://www.ti.com/general/docs/lit/getliterature.tsp?genericPartNumber=UC1834&fileType=pdf
footprint J16 (DIP, 16-Leads, Row Spacing 7.62mm, Pitch 2.54mm, Body 21.3x6.9mm)
pins: 1 VIN+ (power), 2 -2.0V REF (out), 3 +1.5V REF (out), 4 THRESHOLD ADJ (in), 5 VIN- (power), 6 SENSE- (in), 7 SENSE+ (in), 8 N.INV.INPUT (in), 9 INV.INPUT (in), 10 FAULT ALERT (oc), 11 FAULT DELAY, 12 DRIVER SINK, 13 DRIVER SOURCE, 14 COMPENSATION/SHUTDOWN, 15 O.V.LATCH OUTPUT/RESET (in), 16 CROWBAR GATE (out)

## UC1834L
designator U?
High Efficiency Linear Regulator, 4 % Tolerance, 5 to 35 V, -55 to 125 degC, 20-pin LCCC (FK); PartNumber: UC1834L; Manufacturer: Texas Instruments; Fixed Output Options(V): 1.5; Iq(Typ)(mA): 5.5; SubFamily: LDO Controller; Tolerance(%): 4; Vin(Max)(V): 35; Vin(Min)(V): 5; DatasheetVersion: SLUS363; PackageVersion: revD, Jan-2011; PackageReference: FK20; PackageDescription: 20-Pin Leadless Ceramic Chip Carrier, 1.27 mm Pitch; Mounting Technology: Surface Mount; Code_JEDEC: MS-004; ComponentLink1Description: Datasheet; ComponentLink1URL: http://www.ti.com/general/docs/lit/getliterature.tsp?genericPartNumber=UC1834&fileType=pdf
footprint FK20_N (Leadless Chip Carrier, 20-Leads, Body 8.9x8.9mm, Pitch 1.27mm, IPC Medium Density)
footprint FK20_L (Leadless Chip Carrier, 20-Leads, Body 8.9x8.9mm, Pitch 1.27mm, IPC High Density)
footprint FK20_M (Leadless Chip Carrier, 20-Leads, Body 8.9x8.9mm, Pitch 1.27mm, IPC Low Density)
pins: 1 NC, 2 VIN + (power), 3 -2.0V REF (out), 4 +1.5V REF (out), 5 THRESHOLD ADJUST (in), 6 NC, 7 VIN- (power), 8 SENSE- (in), 9 SENSE+ (in), 10 N.INV.INPUT (in), 11 NC, 12 INV.INPUT (in), 13 FAULT ALERT (oc), 14 FAULT DELAY, 15 DRIVER SINK, 16 NC, 17 DRIVER SOURCE, 18 COMPENSATION/ SHUTDOWN, 19 O.V.LATCH OUTPUT/RESET (in), 20 CROWBAR GATE (out)

## UC1834L883B
designator U?
High Efficiency Linear Regulator, 4 % Tolerance, 5 to 35 V, -55 to 125 degC, 20-pin LCCC (FK); PartNumber: UC1834L883B; Manufacturer: Texas Instruments; Fixed Output Options(V): 1.5; Iq(Typ)(mA): 5.5; SubFamily: LDO Controller; Tolerance(%): 4; Vin(Max)(V): 35; Vin(Min)(V): 5; DatasheetVersion: SLUS363; PackageVersion: revD, Jan-2011; PackageReference: FK20; PackageDescription: 20-Pin Leadless Ceramic Chip Carrier, 1.27 mm Pitch; Mounting Technology: Surface Mount; Code_JEDEC: MS-004; ComponentLink1Description: Datasheet; ComponentLink1URL: http://www.ti.com/general/docs/lit/getliterature.tsp?genericPartNumber=UC1834&fileType=pdf
footprint FK20_N (Leadless Chip Carrier, 20-Leads, Body 8.9x8.9mm, Pitch 1.27mm, IPC Medium Density)
footprint FK20_L (Leadless Chip Carrier, 20-Leads, Body 8.9x8.9mm, Pitch 1.27mm, IPC High Density)
footprint FK20_M (Leadless Chip Carrier, 20-Leads, Body 8.9x8.9mm, Pitch 1.27mm, IPC Low Density)
pins: 1 NC, 2 VIN + (power), 3 -2.0V REF (out), 4 +1.5V REF (out), 5 THRESHOLD ADJUST (in), 6 NC, 7 VIN- (power), 8 SENSE- (in), 9 SENSE+ (in), 10 N.INV.INPUT (in), 11 NC, 12 INV.INPUT (in), 13 FAULT ALERT (oc), 14 FAULT DELAY, 15 DRIVER SINK, 16 NC, 17 DRIVER SOURCE, 18 COMPENSATION/ SHUTDOWN, 19 O.V.LATCH OUTPUT/RESET (in), 20 CROWBAR GATE (out)

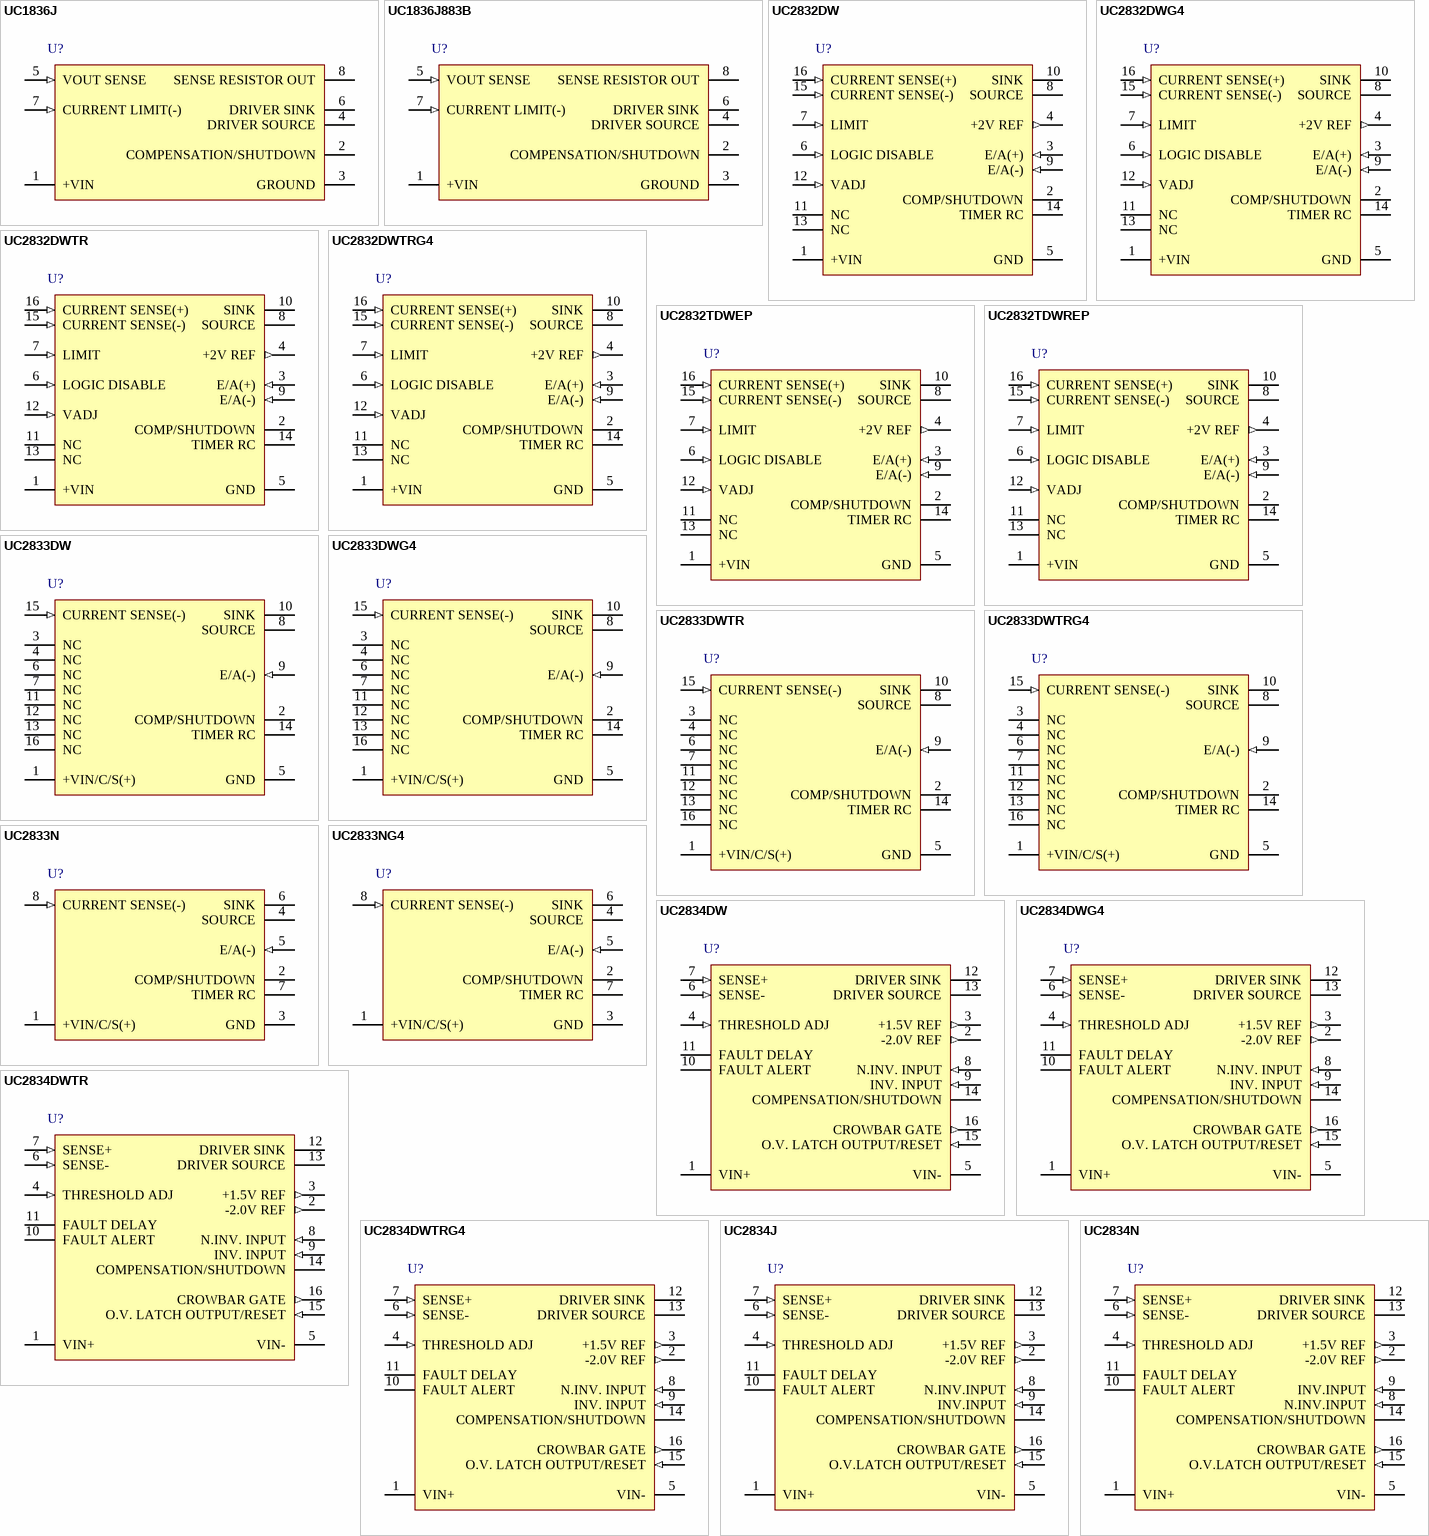
[diagram p1: symbols UC1836J to UC2834N]

## UC1836J
designator U?
High Efficiency Regulator Controller, 2 % Tolerance, 6 to 40 V, -55 to 125 degC, 8-pin CDIP (JG); PartNumber: UC1836J; Manufacturer: Texas Instruments; Iq(Typ)(mA): 3.7; SubFamily: LDO Controller; Tolerance(%): 2; Vin(Max)(V): 40; Vin(Min)(V): 6; Vout Adj(Max)(V): 5; Vout Adj(Min)(V): 2.5; DatasheetVersion: SLUS383; PackageVersion: revC, Aug-1996; PackageReference: JG8; PackageDescription: 8-Pin Ceramic Dual-In-Line Package, Row Spacing 7.62 mm, Pitch 2.54 mm; Mounting Technology: Through Hole; ComponentLink1Description: Datasheet; ComponentLink1URL: http://www.ti.com/general/docs/lit/getliterature.tsp?genericPartNumber=UC1836&fileType=pdf
footprint JG8 (DIP, 8-Leads, Row Spacing 7.62mm, Pitch 2.54mm, Body 9.6x6.7mm)
pins: 1 +VIN (power), 2 COMPENSATION/SHUTDOWN, 3 GROUND (power), 4 DRIVER SOURCE, 5 VOUT SENSE (in), 6 DRIVER SINK, 7 CURRENT LIMIT(-) (in), 8 SENSE RESISTOR OUT

## UC1836J883B
designator U?
High Efficiency Regulator Controller, 2 % Tolerance, 6 to 40 V, -55 to 125 degC, 8-pin CDIP (JG); PartNumber: UC1836J883B; Manufacturer: Texas Instruments; Iq(Typ)(mA): 3.7; SubFamily: LDO Controller; Tolerance(%): 2; Vin(Max)(V): 40; Vin(Min)(V): 6; Vout Adj(Max)(V): 5; Vout Adj(Min)(V): 2.5; DatasheetVersion: SLUS383; PackageVersion: revC, Aug-1996; PackageReference: JG8; PackageDescription: 8-Pin Ceramic Dual-In-Line Package, Row Spacing 7.62 mm, Pitch 2.54 mm; Mounting Technology: Through Hole; ComponentLink1Description: Datasheet; ComponentLink1URL: http://www.ti.com/general/docs/lit/getliterature.tsp?genericPartNumber=UC1836&fileType=pdf
footprint JG8 (DIP, 8-Leads, Row Spacing 7.62mm, Pitch 2.54mm, Body 9.6x6.7mm)
pins: 1 +VIN (power), 2 COMPENSATION/SHUTDOWN, 3 GROUND (power), 4 DRIVER SOURCE, 5 VOUT SENSE (in), 6 DRIVER SINK, 7 CURRENT LIMIT(-) (in), 8 SENSE RESISTOR OUT

## UC2832DW
designator U?
Precision Low Dropout Linear Controller, 2 % Tolerance, 4.5 to 40 V, -25 to 85 degC, 16-pin SOIC (DW), Green (RoHS & no Sb/Br); PartNumber: UC2832DW; Manufacturer: Texas Instruments; Fixed Output Options(V): 2; Iq(Typ)(mA): 3.3; SubFamily: LDO Controller; Vin(Max)(V): 40; Vin(Min)(V): 4.5; DatasheetVersion: SLUS387A; PackageVersion: revG, Jan-2011; PackageReference: DW16; PackageDescription: 16-Pin Small Outline Integrated Circuit, 10.3 x 7.5 mm, Pitch 1.27 mm Pitch; Supplier 1: Digi-Key; Supplier Part Number 1: UC2832DW-ND; Supplier 2: Newark; Supplier Part Number 2: 77C2922; Supplier 3: Mouser; Supplier Part Number 3: 595-UC2832DW; Tolerance(%): 2; Mounting Technology: Surface Mount; Code_JEDEC: MS-013-AA; ComponentLink1Description: Datasheet; ComponentLink1URL: http://www.ti.com/general/docs/lit/getliterature.tsp?genericPartNumber=UC2832&fileType=pdf
footprint DW16_N (SOIC, 16-Leads, Body 10.3x7.5mm, Pitch 1.27mm, IPC Medium Density)
footprint DW16_L (SOIC, 16-Leads, Body 10.3x7.5mm, Pitch 1.27mm, IPC High Density)
footprint DW16_M (SOIC, 16-Leads, Body 10.3x7.5mm, Pitch 1.27mm, IPC Low Density)
pins: 1 +VIN (power), 2 COMP/SHUTDOWN, 3 E/A(+) (in), 4 +2V REF (out), 5 GND (power), 6 LOGIC DISABLE (in), 7 LIMIT (in), 8 SOURCE, 9 E/A(-) (in), 10 SINK, 11 NC, 12 VADJ (in), 13 NC, 14 TIMER RC, 15 CURRENT SENSE(-) (in), 16 CURRENT SENSE(+) (in)

## UC2832DWG4
designator U?
Precision Low Dropout Linear Controller, 2 % Tolerance, 4.5 to 40 V, -25 to 85 degC, 16-pin SOIC (DW), Green (RoHS & no Sb/Br); PartNumber: UC2832DWG4; Manufacturer: Texas Instruments; Fixed Output Options(V): 2; Iq(Typ)(mA): 3.3; SubFamily: LDO Controller; Vin(Max)(V): 40; Vin(Min)(V): 4.5; DatasheetVersion: SLUS387A; PackageVersion: revG, Jan-2011; PackageReference: DW16; PackageDescription: 16-Pin Small Outline Integrated Circuit, 10.3 x 7.5 mm, Pitch 1.27 mm Pitch; Supplier 1: Digi-Key; Supplier Part Number 1: UC2832DWG4-ND; Supplier 2: Newark; Supplier Part Number 2: 14M4020; Supplier 3: Mouser; Supplier Part Number 3: 595-UC2832DWG4; Tolerance(%): 2; Mounting Technology: Surface Mount; Code_JEDEC: MS-013-AA; ComponentLink1Description: Datasheet; ComponentLink1URL: http://www.ti.com/general/docs/lit/getliterature.tsp?genericPartNumber=UC2832&fileType=pdf
footprint DW16_N (SOIC, 16-Leads, Body 10.3x7.5mm, Pitch 1.27mm, IPC Medium Density)
footprint DW16_L (SOIC, 16-Leads, Body 10.3x7.5mm, Pitch 1.27mm, IPC High Density)
footprint DW16_M (SOIC, 16-Leads, Body 10.3x7.5mm, Pitch 1.27mm, IPC Low Density)
pins: 1 +VIN (power), 2 COMP/SHUTDOWN, 3 E/A(+) (in), 4 +2V REF (out), 5 GND (power), 6 LOGIC DISABLE (in), 7 LIMIT (in), 8 SOURCE, 9 E/A(-) (in), 10 SINK, 11 NC, 12 VADJ (in), 13 NC, 14 TIMER RC, 15 CURRENT SENSE(-) (in), 16 CURRENT SENSE(+) (in)

## UC2832DWTR
designator U?
Precision Low Dropout Linear Controller, 2 % Tolerance, 4.5 to 40 V, -25 to 85 degC, 16-pin SOIC (DW), Green (RoHS & no Sb/Br); PartNumber: UC2832DWTR; Manufacturer: Texas Instruments; Fixed Output Options(V): 2; Iq(Typ)(mA): 3.3; SubFamily: LDO Controller; Vin(Max)(V): 40; Vin(Min)(V): 4.5; DatasheetVersion: SLUS387A; PackageVersion: revG, Jan-2011; PackageReference: DW16; PackageDescription: 16-Pin Small Outline Integrated Circuit, 10.3 x 7.5 mm, Pitch 1.27 mm Pitch; Supplier 1: Digi-Key; Supplier Part Number 1: UC2832DWTR-ND; Supplier 2: Newark; Supplier Part Number 2: 77C2923; Supplier 3: Mouser; Supplier Part Number 3: 595-UC2832DWTR; Tolerance(%): 2; Mounting Technology: Surface Mount; Code_JEDEC: MS-013-AA; ComponentLink1Description: Datasheet; ComponentLink1URL: http://www.ti.com/general/docs/lit/getliterature.tsp?genericPartNumber=UC2832&fileType=pdf
footprint DW16_N (SOIC, 16-Leads, Body 10.3x7.5mm, Pitch 1.27mm, IPC Medium Density)
footprint DW16_L (SOIC, 16-Leads, Body 10.3x7.5mm, Pitch 1.27mm, IPC High Density)
footprint DW16_M (SOIC, 16-Leads, Body 10.3x7.5mm, Pitch 1.27mm, IPC Low Density)
pins: 1 +VIN (power), 2 COMP/SHUTDOWN, 3 E/A(+) (in), 4 +2V REF (out), 5 GND (power), 6 LOGIC DISABLE (in), 7 LIMIT (in), 8 SOURCE, 9 E/A(-) (in), 10 SINK, 11 NC, 12 VADJ (in), 13 NC, 14 TIMER RC, 15 CURRENT SENSE(-) (in), 16 CURRENT SENSE(+) (in)

## UC2832DWTRG4
designator U?
Precision Low Dropout Linear Controller, 2 % Tolerance, 4.5 to 40 V, -25 to 85 degC, 16-pin SOIC (DW), Green (RoHS & no Sb/Br); PartNumber: UC2832DWTRG4; Manufacturer: Texas Instruments; Fixed Output Options(V): 2; Iq(Typ)(mA): 3.3; SubFamily: LDO Controller; Vin(Max)(V): 40; Vin(Min)(V): 4.5; DatasheetVersion: SLUS387A; PackageVersion: revG, Jan-2011; PackageReference: DW16; PackageDescription: 16-Pin Small Outline Integrated Circuit, 10.3 x 7.5 mm, Pitch 1.27 mm Pitch; Supplier 1: Digi-Key; Supplier Part Number 1: UC2832DWTRG4-ND; Supplier 2: Newark; Supplier Part Number 2: 85K1821; Supplier 3: Mouser; Supplier Part Number 3: 595-UC2832DWTRG4; Tolerance(%): 2; Mounting Technology: Surface Mount; Code_JEDEC: MS-013-AA; ComponentLink1Description: Datasheet; ComponentLink1URL: http://www.ti.com/general/docs/lit/getliterature.tsp?genericPartNumber=UC2832&fileType=pdf
footprint DW16_N (SOIC, 16-Leads, Body 10.3x7.5mm, Pitch 1.27mm, IPC Medium Density)
footprint DW16_L (SOIC, 16-Leads, Body 10.3x7.5mm, Pitch 1.27mm, IPC High Density)
footprint DW16_M (SOIC, 16-Leads, Body 10.3x7.5mm, Pitch 1.27mm, IPC Low Density)
pins: 1 +VIN (power), 2 COMP/SHUTDOWN, 3 E/A(+) (in), 4 +2V REF (out), 5 GND (power), 6 LOGIC DISABLE (in), 7 LIMIT (in), 8 SOURCE, 9 E/A(-) (in), 10 SINK, 11 NC, 12 VADJ (in), 13 NC, 14 TIMER RC, 15 CURRENT SENSE(-) (in), 16 CURRENT SENSE(+) (in)

## UC2832TDWEP
designator U?
Enhanced Product Precision Low Dropout Linear Controller, 1 % Tolerance, 4.5 to 36 V, -40 to 105 degC, 16-pin SOIC (DW), Green (RoHS & no Sb/Br); PartNumber: UC2832TDWEP; Manufacturer: Texas Instruments; Fixed Output Options(V): 2; Iq(Typ)(mA): 3.3; SubFamily: LDO Controller; Tolerance(%): 1; Vin(Max)(V): 36; Vin(Min)(V): 4.5; DatasheetVersion: SGLS147A; PackageVersion: revG, Jan-2011; PackageReference: DW16; PackageDescription: 16-Pin Small Outline Integrated Circuit, 10.3 x 7.5 mm, Pitch 1.27 mm Pitch; Supplier 1: Digi-Key; Supplier Part Number 1: 296-18185-5-ND; Supplier 2: Newark; Supplier Part Number 2: 46M1393; Supplier 3: Mouser; Supplier Part Number 3: 595-UC2832TDWEP; Mounting Technology: Surface Mount; Code_JEDEC: MS-013-AA; ComponentLink1Description: Datasheet; ComponentLink1URL: http://www.ti.com/general/docs/lit/getliterature.tsp?genericPartNumber=UC2832-EP&fileType=pdf
footprint DW16_N (SOIC, 16-Leads, Body 10.3x7.5mm, Pitch 1.27mm, IPC Medium Density)
footprint DW16_L (SOIC, 16-Leads, Body 10.3x7.5mm, Pitch 1.27mm, IPC High Density)
footprint DW16_M (SOIC, 16-Leads, Body 10.3x7.5mm, Pitch 1.27mm, IPC Low Density)
pins: 1 +VIN (power), 2 COMP/SHUTDOWN, 3 E/A(+) (in), 4 +2V REF (out), 5 GND (power), 6 LOGIC DISABLE (in), 7 LIMIT (in), 8 SOURCE, 9 E/A(-) (in), 10 SINK, 11 NC, 12 VADJ (in), 13 NC, 14 TIMER RC, 15 CURRENT SENSE(-) (in), 16 CURRENT SENSE(+) (in)

## UC2832TDWREP
designator U?
Enhanced Product Precision Low Dropout Linear Controller, 1 % Tolerance, 4.5 to 36 V, -40 to 105 degC, 16-pin SOIC (DW), Green (RoHS & no Sb/Br); PartNumber: UC2832TDWREP; Manufacturer: Texas Instruments; Fixed Output Options(V): 2; Iq(Typ)(mA): 3.3; SubFamily: LDO Controller; Tolerance(%): 1; Vin(Max)(V): 36; Vin(Min)(V): 4.5; DatasheetVersion: SGLS147A; PackageVersion: revG, Jan-2011; PackageReference: DW16; PackageDescription: 16-Pin Small Outline Integrated Circuit, 10.3 x 7.5 mm, Pitch 1.27 mm Pitch; Supplier 1: Digi-Key; Supplier Part Number 1: 296-22531-2-ND; Supplier 2: Digi-Key; Supplier Part Number 2: 296-22531-1-ND; Supplier 3: Digi-Key; Supplier Part Number 3: 296-22531-6-ND; Supplier 4: Mouser; Supplier Part Number 4: 595-UC2832TDWREP; Mounting Technology: Surface Mount; Code_JEDEC: MS-013-AA; ComponentLink1Description: Datasheet; ComponentLink1URL: http://www.ti.com/general/docs/lit/getliterature.tsp?genericPartNumber=UC2832-EP&fileType=pdf
footprint DW16_N (SOIC, 16-Leads, Body 10.3x7.5mm, Pitch 1.27mm, IPC Medium Density)
footprint DW16_L (SOIC, 16-Leads, Body 10.3x7.5mm, Pitch 1.27mm, IPC High Density)
footprint DW16_M (SOIC, 16-Leads, Body 10.3x7.5mm, Pitch 1.27mm, IPC Low Density)
pins: 1 +VIN (power), 2 COMP/SHUTDOWN, 3 E/A(+) (in), 4 +2V REF (out), 5 GND (power), 6 LOGIC DISABLE (in), 7 LIMIT (in), 8 SOURCE, 9 E/A(-) (in), 10 SINK, 11 NC, 12 VADJ (in), 13 NC, 14 TIMER RC, 15 CURRENT SENSE(-) (in), 16 CURRENT SENSE(+) (in)

## UC2833DW
designator U?
Precision Low Dropout Linear Controller, 2 % Tolerance, 4.5 to 40 V, -40 to 85 degC, 16-pin SOIC (DW), Green (RoHS & no Sb/Br); PartNumber: UC2833DW; Manufacturer: Texas Instruments; Fixed Output Options(V): 2; Iq(Typ)(mA): 3.3; SubFamily: LDO Controller; Vin(Max)(V): 40; Vin(Min)(V): 4.5; DatasheetVersion: SLUS387A; PackageVersion: revG, Jan-2011; PackageReference: DW16; PackageDescription: 16-Pin Small Outline Integrated Circuit, 10.3 x 7.5 mm, Pitch 1.27 mm Pitch; Supplier 1: Digi-Key; Supplier Part Number 1: 296-34714-5-ND; Supplier 2: Newark; Supplier Part Number 2: 77C2925; Supplier 3: Mouser; Supplier Part Number 3: 595-UC2833DW; Tolerance(%): 2; Mounting Technology: Surface Mount; Code_JEDEC: MS-013-AA; ComponentLink1Description: Datasheet; ComponentLink1URL: http://www.ti.com/general/docs/lit/getliterature.tsp?genericPartNumber=UC2833&fileType=pdf
footprint DW16_N (SOIC, 16-Leads, Body 10.3x7.5mm, Pitch 1.27mm, IPC Medium Density)
footprint DW16_L (SOIC, 16-Leads, Body 10.3x7.5mm, Pitch 1.27mm, IPC High Density)
footprint DW16_M (SOIC, 16-Leads, Body 10.3x7.5mm, Pitch 1.27mm, IPC Low Density)
pins: 1 +VIN/C/S(+) (power), 2 COMP/SHUTDOWN, 3 NC, 4 NC, 5 GND (power), 6 NC, 7 NC, 8 SOURCE, 9 E/A(-) (in), 10 SINK, 11 NC, 12 NC, 13 NC, 14 TIMER RC, 15 CURRENT SENSE(-) (in), 16 NC

## UC2833DWG4
designator U?
Precision Low Dropout Linear Controller, 2 % Tolerance, 4.5 to 40 V, -40 to 85 degC, 16-pin SOIC (DW), Green (RoHS & no Sb/Br); PartNumber: UC2833DWG4; Manufacturer: Texas Instruments; Fixed Output Options(V): 2; Iq(Typ)(mA): 3.3; SubFamily: LDO Controller; Vin(Max)(V): 40; Vin(Min)(V): 4.5; DatasheetVersion: SLUS387A; PackageVersion: revG, Jan-2011; PackageReference: DW16; PackageDescription: 16-Pin Small Outline Integrated Circuit, 10.3 x 7.5 mm, Pitch 1.27 mm Pitch; Supplier 1: Digi-Key; Supplier Part Number 1: UC2833DWG4-ND; Supplier 2: Mouser; Supplier Part Number 2: 595-UC2833DWG4; Tolerance(%): 2; Mounting Technology: Surface Mount; Code_JEDEC: MS-013-AA; ComponentLink1Description: Datasheet; ComponentLink1URL: http://www.ti.com/general/docs/lit/getliterature.tsp?genericPartNumber=UC2833&fileType=pdf
footprint DW16_N (SOIC, 16-Leads, Body 10.3x7.5mm, Pitch 1.27mm, IPC Medium Density)
footprint DW16_L (SOIC, 16-Leads, Body 10.3x7.5mm, Pitch 1.27mm, IPC High Density)
footprint DW16_M (SOIC, 16-Leads, Body 10.3x7.5mm, Pitch 1.27mm, IPC Low Density)
pins: 1 +VIN/C/S(+) (power), 2 COMP/SHUTDOWN, 3 NC, 4 NC, 5 GND (power), 6 NC, 7 NC, 8 SOURCE, 9 E/A(-) (in), 10 SINK, 11 NC, 12 NC, 13 NC, 14 TIMER RC, 15 CURRENT SENSE(-) (in), 16 NC

## UC2833DWTR
designator U?
Precision Low Dropout Linear Controller, 2 % Tolerance, 4.5 to 40 V, -40 to 85 degC, 16-pin SOIC (DW), Green (RoHS & no Sb/Br); PartNumber: UC2833DWTR; Manufacturer: Texas Instruments; Fixed Output Options(V): 2; Iq(Typ)(mA): 3.3; SubFamily: LDO Controller; Vin(Max)(V): 40; Vin(Min)(V): 4.5; DatasheetVersion: SLUS387A; PackageVersion: revG, Jan-2011; PackageReference: DW16; PackageDescription: 16-Pin Small Outline Integrated Circuit, 10.3 x 7.5 mm, Pitch 1.27 mm Pitch; Supplier 1: Digi-Key; Supplier Part Number 1: UC2833DWTR-ND; Supplier 2: Newark; Supplier Part Number 2: 77C2926; Supplier 3: Mouser; Supplier Part Number 3: 595-UC2833DWTR; Tolerance(%): 2; Mounting Technology: Surface Mount; Code_JEDEC: MS-013-AA; ComponentLink1Description: Datasheet; ComponentLink1URL: http://www.ti.com/general/docs/lit/getliterature.tsp?genericPartNumber=UC2833&fileType=pdf
footprint DW16_N (SOIC, 16-Leads, Body 10.3x7.5mm, Pitch 1.27mm, IPC Medium Density)
footprint DW16_L (SOIC, 16-Leads, Body 10.3x7.5mm, Pitch 1.27mm, IPC High Density)
footprint DW16_M (SOIC, 16-Leads, Body 10.3x7.5mm, Pitch 1.27mm, IPC Low Density)
pins: 1 +VIN/C/S(+) (power), 2 COMP/SHUTDOWN, 3 NC, 4 NC, 5 GND (power), 6 NC, 7 NC, 8 SOURCE, 9 E/A(-) (in), 10 SINK, 11 NC, 12 NC, 13 NC, 14 TIMER RC, 15 CURRENT SENSE(-) (in), 16 NC